# EAGLE library part TC7559C/QC (library pimoroni-ics)
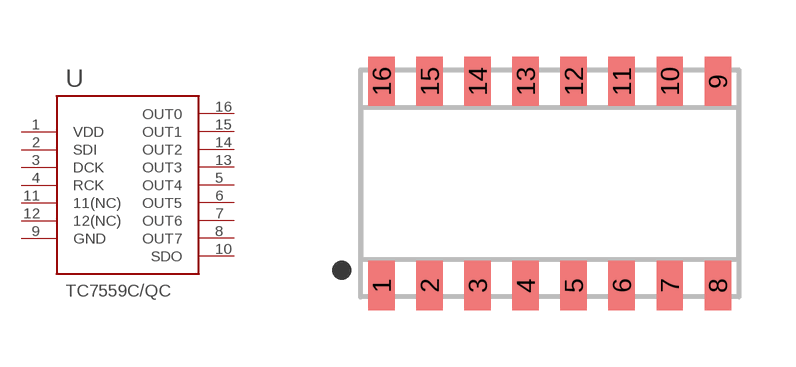
[diagram p176: symbol with the pads of SOP-16-1.27MM; footprint SOP-16-1.27MM]

Designator prefix U

## TC7559C/QC  [SOP-16-1.27MM]
1  VDD
2  SDI
3  DCK
4  RCK
5  OUT4
6  OUT5
7  OUT6
8  OUT7
9  GND
10  SDO
11  11(NC)
12  12(NC)
13  OUT3
14  OUT2
15  OUT1
16  OUT0

## Footprint SOP-16-1.27MM (pad centres in mm)
smd 0.7 x 1.3: 1 -4.445,-2.7; 2 -3.175,-2.7; 3 -1.905,-2.7; 4 -0.635,-2.7; 5 0.635,-2.7; 6 1.905,-2.7; 7 3.175,-2.7; 8 4.445,-2.7; 9 4.445,2.7; 10 3.175,2.7; 11 1.905,2.7; 12 0.635,2.7; 13 -0.635,2.7; 14 -1.905,2.7; 15 -3.175,2.7; 16 -4.445,2.7